# Altium footprint library SparkFun-Passives.PCBLIB: 14 footprints
Each footprint in its own frame and in the unit in brackets; x right, y up, seen from the top. Pads: shape width x height; smd on the part's side, far side on the other; paste and mask are expansions set on the pad; w line width, h text height; cw(c..) or ccw(c..) is an arc to the next point about the centre after c.
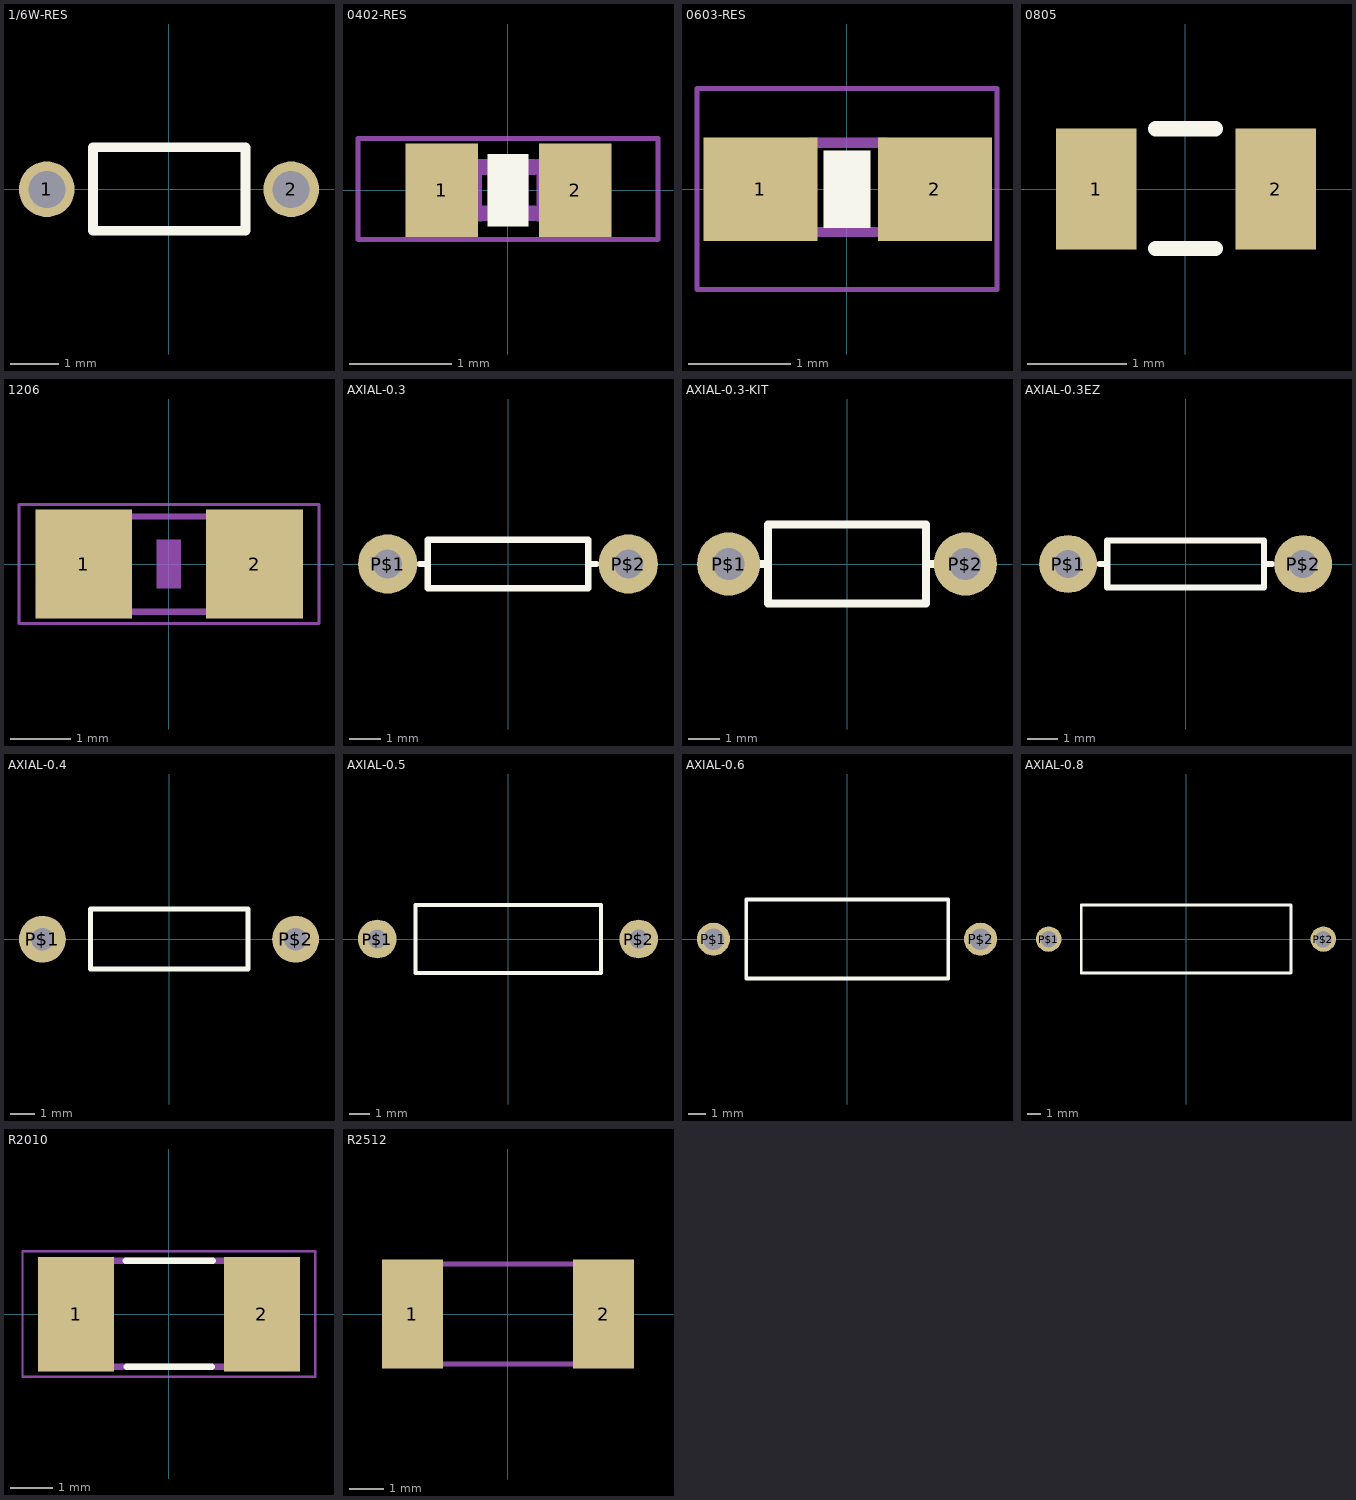
[diagram p0: the footprints below, top view; thin cyan lines are the x and y axes]

## 1/6W-RES [mil]
pads (2):
  round 45 hole 30: 1(-98.43,0) 2(99,0)
Top Overlay:
  lines w8: -61.02,-33.46 -61.02,34 62,34 62,-33.46 -61.02,-33.46

## 0402-RES [mil]
pads (2):
  rect 28x36 smd: 1(-25.59,0) 2(26,0)
Top Overlay:
  rectangle: -8,-14 8,14
Mechanical 6:
  rectangle: -7.87,-11.81 8,12
Mechanical 16:
  rectangle: -21.81,-12 -10,12
  rectangle: 11,-12 22,12
  lines w6: -9.65,-8.82 10,-8.82 ; -9.65,9 10,9
Mechanical 27:
  lines w2: -57.99,-19.02 58,-19.02 58,20 -57.99,20 -57.99,-19.02

## 0603-RES [mil]
pads (2):
  rect 44x40 smd: 1(-33.46,0) 2(34,0)
Top Overlay:
  rectangle: -9,-15 9,15
Mechanical 6:
  rectangle: -7.87,-11.81 8,12
Mechanical 16:
  rectangle: -33,-18.5 -13.31,19
  rectangle: 13,-18.5 33,19
  lines w4: -14.02,-16.5 15,-16.5 ; -14.02,18 15,18
Mechanical 27:
  lines w2: -57.99,-38.7 58,-38.7 58,39 -57.99,39 -57.99,-38.7

## 0805 [mil]
pads (2):
  rect 32x48 smd: 1(-35.43,0) 2(36,0)
Top Overlay:
  lines w6: -11.81,-23.62 12,-23.62 ; -11.81,24 12,24

## 1206 [mil]
pads (2):
  rect 63x71 smd: 1(-55.12,0) 2(56,0)
Mechanical 6:
  rectangle: -7.87,-15.75 8,16
Mechanical 16:
  rectangle: -67,-33.5 -37.47,34
  rectangle: 38,-33.43 67,34
  lines w4: -37.99,-30.98 38,-30.98 ; -37.99,31 38,31
Mechanical 27:
  lines w2: -97.36,-38.7 98,-38.7 98,39 -97.36,39 -97.36,-38.7

## AXIAL-0.3 [mil]
pads (2):
  round 74 hole 36: P$1(-150,0) P$2(150,0)
Top Overlay:
  lines w8: -110,0 -100,0 ; 110,0 100,0 ; -100,0 -100,-30 100,-30 100,0 ; -100,0 -100,30 100,30 100,0

## AXIAL-0.3-KIT [mil]
pads (2):
  round 80 hole 40: P$1(-150,0) P$2(150,0)
Top Overlay:
  lines w10: -110,0 -100,0 ; 110,0 100,0 ; -100,0 -100,-50 100,-50 100,0 ; -100,0 -100,50 100,50 100,0
Top Solder:
  region: 0,0 10,0 10,10 0,10
  region: 0,0 10,0 10,10 0,10
Bottom Solder:
  region: 0,0 10,0 10,10 0,10
  region: 0,0 10,0 10,10 0,10

## AXIAL-0.3EZ [mil]
pads (2):
  round 74 hole 36: P$1(-150,0) P$2(150,0)
Top Overlay:
  lines w8: -110,0 -100,0 ; 110,0 100,0 ; -100,0 -100,-30 100,-30 100,0 ; -100,0 -100,30 100,30 100,0
Top Solder:
  circle w0: c-150,0 r20
  circle w0: c150,0 r21
Bottom Solder:
  circle w0: c-150,0 r41
  circle w0: c150,0 r42

## AXIAL-0.4 [mil]
pads (2):
  round 74 hole 36: P$1(-200,0) P$2(200,0)
Top Overlay:
  lines w8: -124.02,-47.24 -124.02,48 125,48 125,-47.24 -124.02,-47.24

## AXIAL-0.5 [mil]
pads (2):
  round 74 hole 36: P$1(-250,0) P$2(250,0)
Top Overlay:
  lines w8: -177.17,-64.96 -177.17,65 178,65 178,-64.96 -177.17,-64.96

## AXIAL-0.6 [mil]
pads (2):
  round 74 hole 48: P$1(-300,0) P$2(300,0)
Top Overlay:
  lines w8: -226.38,-88.58 -226.38,89 227,89 227,-88.58 -226.38,-88.58

## AXIAL-0.8 [mil]
pads (2):
  round 74 hole 48: P$1(-400,0) P$2(400,0)
Top Overlay:
  lines w8: -305.12,-98.43 -305.12,99 306,99 306,-98.43 -305.12,-98.43

## R2010 [mil]
pads (2):
  rect 71x107 smd: 1(-86.61,0) 2(87,0)
Top Overlay:
  lines w6: -40.43,50 41,50 ; -39.45,-49.02 40,-49.02
Mechanical 16:
  rectangle: -98,-52 -64.54,53
  rectangle: 65,-52 99,53
  lines w6: -65.43,50 66,50 ; -64.45,-49.02 67,-49.02
Mechanical 27:
  lines w2: -136.73,-58.39 137,-58.39 137,59 -136.73,59 -136.73,-58.39

## R2512 [mil]
pads (2):
  rect 71x126 smd: 1(-110.24,0) 2(111,0)
Mechanical 16:
  rectangle: -126,-61 -92.54,62
  rectangle: 93,-61 127,62
  lines w6: -92.99,-57.99 94,-57.99 ; -92.99,58 94,58